# EAGLE library part AN7112 (library Audio-Power-amlifier V.2.0)
0,5 W AUDIO POWER AMPLIFIER
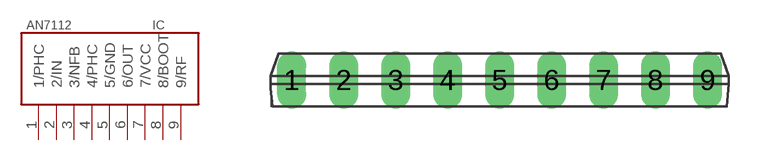
[diagram p143: symbol with the pads of HSIP09-P-0000-2,54; footprint HSIP09-P-0000-2,54]

Designator prefix IC

## AN7112  [HSIP09-P-0000-2,54]
1  1/PHC
2  2/IN  in
3  3/NFB  in
4  4/PHC
5  5/GND  pwr
6  6/OUT  out
7  7/VCC  pwr
8  8/BOOT
9  9/RF

## Footprint HSIP09-P-0000-2,54 (pad centres in mm)
drill 0.9 long: 1 -10.16,0; 2 -7.62,0; 3 -5.08,0; 4 -2.54,0; 5 0,0; 6 2.54,0; 7 5.08,0; 8 7.62,0; 9 10.16,0